# Altium footprint library Sockets_PCB.PcbLib: 4 footprints
Each footprint in its own frame and in the unit in brackets; x right, y up, seen from the top. Pads: shape width x height; smd on the part's side, far side on the other; paste and mask are expansions set on the pad; w line width, h text height; cw(c..) or ccw(c..) is an arc to the next point about the centre after c.
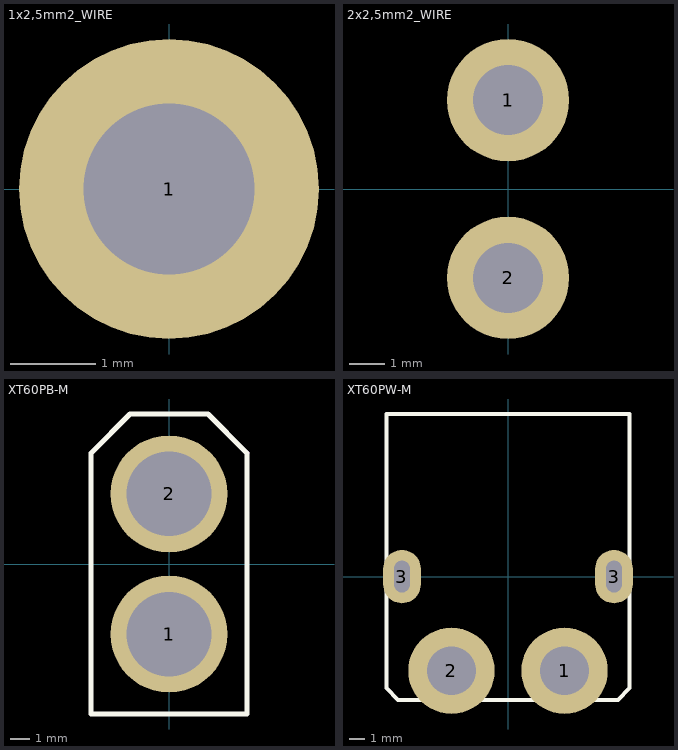
[diagram p0: the footprints below, top view; thin cyan lines are the x and y axes]

## 1x2,5mm2_WIRE [mm]
pads (1):
  round 3.5 hole 2: 1(0,0)

## 2x2,5mm2_WIRE [mm]
pads (2):
  round 3.5 hole 2: 1(0,2.54) 2(0,-2.54)

## XT60PB-M [mm]
pads (2):
  round 6 hole 4.35: 1(0,-3.6) 2(0,3.6)
Top Overlay:
  lines w0.254: -4,-7.7 4,-7.7 4,5.7 2,7.7 -2,7.7 -4,5.7 -4,-7.7
Mechanical 1:
  lines w0.254: 4,5.7 4,5.7
3D body: height 15.9, standoff 0, extent -4,-7.7 4,7.7

## XT60PW-M [mm]
pads (4):
  round 5.5 hole 3.1: 1(3.6,-6) 2(-3.6,-6)
  oval 2.4x3.4 hole 1 slot 2 at 90 deg: 3(-6.75,0) 3(6.75,0)
Top Overlay:
  lines w0.254: -7.75,-7.1 -7.75,-5 -7.75,10.35 7.75,10.35 7.75,-5 7.75,-7.1 7,-7.85 -7,-7.85 -7.75,-7.1
3D body: height 8.4, standoff 0, extent -7.747,-7.874 7.747,10.287